# Altium schematic symbol library LED - APT1608SURCK.SchLib: 1 symbol
Pins are listed as number, name and electrical type; pins without a type are passive.

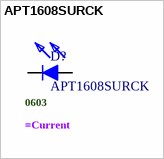
[diagram p0: symbol APT1608SURCK]

## APT1608SURCK
designator D?  .Case/Package: 0603
APT1608SURCK Red Led, 630 Nm 1608 (0603) Clear, Rectangle Lens SMD Package; Manufacturer: Kingbright; Dominant Wavelength: 630nm; Forward Current: 30mA; Forward Voltage: 1.95V; Lens Style: Clear, Flat; Luminous Intensity: 150mcd; Max Junction Temperature (Tj): 115°C; Number of Circuits: 1; Peak Wavelength: 650nm; Power Dissipation: 75mW; Reverse Voltage: 5V; Shape: Rectangular; Test Current: 20mA; Viewing Angle: 120°; Supplier: Mouser; Supplier Part Number: 604-APT1608SURCK; Manufacturer Part Number: APT1608SURCK; RoHS: Compliant; Category: LEDs; Stock: 38283; Pricing: 1=0,2, 10=0,136, 50=0,136, 100=0,091, 1000=0,067, 10000=0,049 (USD); Case/Package: 0603; Case Code (Imperial): 0603; Case Code (Metric): 1608; Color: Red; Contact Plating: Gold; Height: 750µm; Illumination Color: Red; Lead Free: Lead Free; Length: 1.6mm; Lens Color: Clear; Lifecycle Status: Production; Max Operating Temperature: 85°C; Min Operating Temperature: -40°C; Mounting Technology: Surface Mount; Number of LEDs: 1; Pins: 2; Number of Terminals: 2; Packaging: Tape & Reel (TR); REACH SVHC: Yes; Schedule B: 8541402000, 8541402000|8541402000, 8541402000|8541402000|8541402000, 8541402000|8541402000|8541402000|8541402000; Terminal Pitch: 1.65mm; Wavelength: 630nm; Width: 800µm; ComponentLink1URL: https://datasheet.octopart.com:443/APT1608SURCK-Kingbright-datasheet-180517304.pdf?src-supplier=IHS; ComponentLink1Description: https://datasheet.octopart.com:443/APT1608SURCK-Kingbright-datasheet-180517304.pdf?src-supplier=IHS; ComponentLink2URL: https://datasheet.octopart.com:443/APT1608SURCK-Kingbright-datasheet-158492.pdf?src-supplier=IHS; ComponentLink2Description: https://datasheet.octopart.com:443/APT1608SURCK-Kingbright-datasheet-158492.pdf?src-supplier=IHS; ComponentLink3URL: https://datasheet.octopart.com:443/APT1608SURCK-Kingbright-datasheet-134530437.pdf?src-supplier=Upverter; ComponentLink3Description: https://datasheet.octopart.com:443/APT1608SURCK-Kingbright-datasheet-134530437.pdf?src-supplier=Upverter; ComponentLink4URL: https://datasheet.octopart.com:443/APT1608SURCK-Kingbright-datasheet-8331631.pdf?src-supplier=Sager+Electronics; ComponentLink4Description: https://datasheet.octopart.com:443/APT1608SURCK-Kingbright-datasheet-8331631.pdf?src-supplier=Sager+Electronics; ComponentLink5URL: https://datasheet.octopart.com:443/APT1608SURCK-Kingbright-datasheet-9964258.pdf?src-supplier=RS+(Formerly+Allied+Electronics); ComponentLink5Description: https://datasheet.octopart.com:443/APT1608SURCK-Kingbright-datasheet-9964258.pdf?src-supplier=RS+(Formerly+Allied+Electronics); Supplier 1: Mouser; Supplier Part Number 1: 604-APT1608SURCK; .Current: =Current
footprint LED0603 - KINGBRIGHT
pins: 1, 2